# Altium footprint library JST-XH_4PIN.PcbLib: 1 footprints
Each footprint in its own frame and in the unit in brackets; x right, y up, seen from the top. Pads: shape width x height; smd on the part's side, far side on the other; paste and mask are expansions set on the pad; w line width, h text height; cw(c..) or ccw(c..) is an arc to the next point about the centre after c.
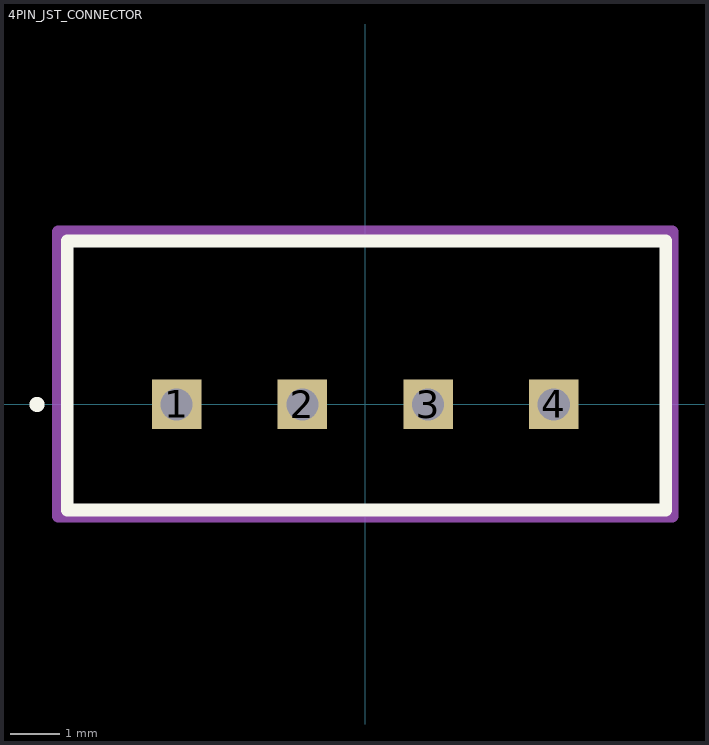
[diagram p0: the footprint, top view; thin cyan lines are the x and y axes]

## 4PIN_JST_CONNECTOR [mm]
pads (4):
  rect 1x1 hole 0.65 square: 1(-3.81,0) 2(-1.27,0) 3(1.27,0) 4(3.81,0)
Top Overlay:
  circle w0.254: c-6.629,0 r0.025
  lines w0.254: -6.02,-2.134 -6.02,3.302 6.071,3.302 6.071,-2.134 -6.02,-2.134
Mechanical 1:
  lines w0.254: -6.198,-2.261 6.202,-2.261 6.202,3.489 -6.198,3.489 -6.198,-2.261
3D body "JST_XH_4PIN.STEP": height 7, standoff -2.4, extent -6.279,-2.367 6.121,3.383